# Altium schematic symbol library Custom_schematic.SchLib: 7 symbols
Pins are listed as number, name and electrical type; pins without a type are passive.

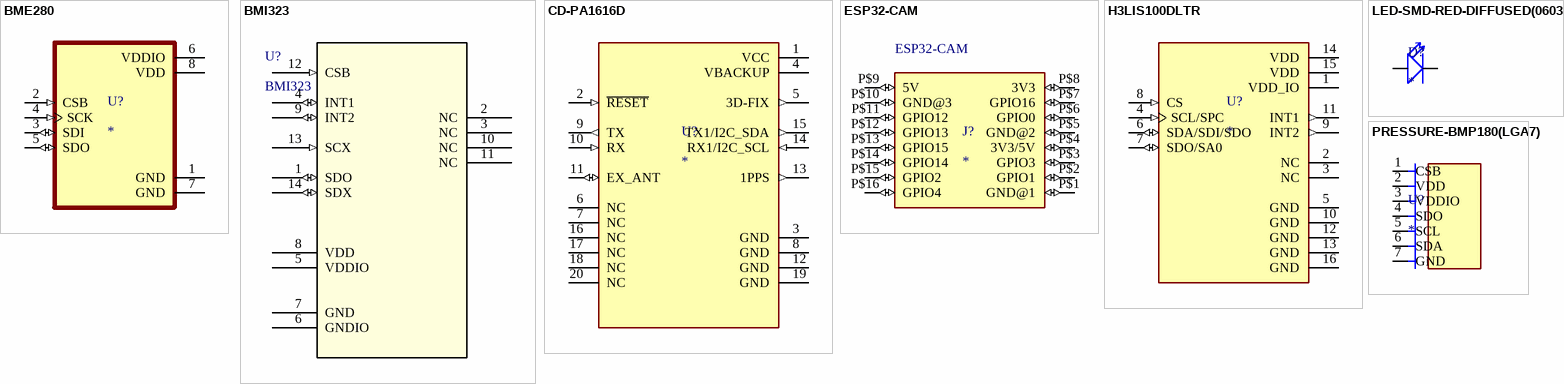
[diagram p0: symbols BME280 to PRESSURE-BMP180(LGA7)]

## BME280
designator U?
Board Mount Humidity Sensors MEMS humidity, pressure and temperature sensor; MF: Bosch; MP: BME280; SnapEDA_Link: https://www.snapeda.com/parts/BME280/Bosch/view-part/?ref=snap; Package: LGA-8 Bosch; Value: *; Check_prices: https://www.snapeda.com/parts/BME280/Bosch/view-part/?ref=eda
footprint PSON65P250X250X100-8N
pins: 1 GND (power), 2 CSB (in), 3 SDI (io), 4 SCK (in), 5 SDO (io), 6 VDDIO (power), 7 GND (power), 8 VDD (power)

## BMI323
designator U?
Description; Manufacturer_Name: Bosch Sensortec; Copyright: Copyright (C) 2026 Ultra Librarian. All rights reserved.; Manufacturer_Part_Number: BMI323; RefDes: RefDes; Type: Type
footprint BMI323_BOS
pins: 1 SDO (io), 2 NC, 3 NC, 4 INT1 (io), 5 VDDIO (power), 6 GNDIO (power), 7 GND (power), 8 VDD (power), 9 INT2 (io), 10 NC, 11 NC, 12 CSB (in), 13 SCX (in), 14 SDX (io)

## CD-PA1616D
designator U?
CD-PA1616DGNSS patch antenna module; MF: CD Top; SnapEDA_Link: https://www.snapeda.com/parts/CD-PA1616D/CD+technology/view-part/?ref=snap; Package: Package; Value: *; MP: CD-PA1616D; Check_prices: https://www.snapeda.com/parts/CD-PA1616D/CD+technology/view-part/?ref=eda
footprint XCVR_CD-PA1616D
pins: 1 VCC (power), 2 ~{RESET} (in), 3 GND (power), 4 VBACKUP (power), 5 3D-FIX (out), 6 NC, 7 NC, 8 GND (power), 9 TX (out), 10 RX (in), 11 EX_ANT (io), 12 GND (power), 13 1PPS (out), 14 RX1/I2C_SCL (in), 15 TX1/I2C_SDA (out), 16 NC, 17 NC, 18 NC, 19 GND (power), 20 NC

## ESP32-CAM
designator J?
ESP32 ESP32 Transceiver; 802.11 a/b/g/n (Wi-Fi, WiFi, WLAN), BluetoothÂ® Smart 4.x Low Energy (BLE) Evaluation Board; MF: AI-Thinker; MP: ESP32-CAM; SnapEDA_Link: https://www.snapeda.com/parts/ESP32-CAM/AI-Thinker/view-part/?ref=snap; Package: None; Value: *; Check_prices: https://www.snapeda.com/parts/ESP32-CAM/AI-Thinker/view-part/?ref=eda
footprint ESP32-CAM
pins: P$1 GND@1 (io), P$2 GPIO1 (io), P$3 GPIO3 (io), P$4 3V3/5V (io), P$5 GND@2 (io), P$6 GPIO0 (io), P$7 GPIO16 (io), P$8 3V3 (io), P$9 5V (io), P$10 GND@3 (io), P$11 GPIO12 (io), P$12 GPIO13 (io), P$13 GPIO15 (io), P$14 GPIO14 (io), P$15 GPIO2 (io), P$16 GPIO4 (io)

## H3LIS100DLTR
designator U?
Accelerometer X, Y, Z Axis Â±100g 25Hz ~ 200Hz 16-TFLGA (3x3); MF: STMicroelectronics; MP: H3LIS100DLTR; SnapEDA_Link: https://www.snapeda.com/parts/H3LIS100DLTR/STMicroelectronics/view-part/?ref=snap; Package: TFLGA-16 STMicroelectronics; Value: *; Check_prices: https://www.snapeda.com/parts/H3LIS100DLTR/STMicroelectronics/view-part/?ref=eda
footprint PQFN50P300X300X100-16N
pins: 1 VDD_IO (power), 2 NC, 3 NC, 4 SCL/SPC (in), 5 GND (power), 6 SDA/SDI/SDO (io), 7 SDO/SA0 (io), 8 CS (in), 9 INT2 (out), 10 GND (power), 11 INT1 (out), 12 GND (power), 13 GND (power), 14 VDD (power), 15 VDD (power), 16 GND (power)

## LED-SMD-RED-DIFFUSED(0603)
designator D?
Red - LED Indication - Discrete 1.95V 0603 (1608 Metric); MF: Everlight Electronics; MP: 19-217/R6C-AL1M2VY/3T; SnapEDA_Link: https://www.snapeda.com/parts/19-217/R6C-AL1M2VY/3T/Everlight/view-part/?ref=snap; Package: 0603 Everlight Electronics; Value: *; Check_prices: https://www.snapeda.com/parts/19-217/R6C-AL1M2VY/3T/Everlight/view-part/?ref=eda
footprint LED-0603
pins: NEG, POS

## PRESSURE-BMP180(LGA7)
designator U?
Pressure Sensor 4.35PSI ~ 15.95PSI (30kPa ~ 110kPa) Absolute - 16 ~ 19 b 7-VLGA; MF: Bosch; MP: BMP180; SnapEDA_Link: https://www.snapeda.com/parts/BMP180/Bosch/view-part/?ref=snap; Package: LGA-7 Bosch; Value: *; Check_prices: https://www.snapeda.com/parts/BMP180/Bosch/view-part/?ref=eda
footprint LGA7-1.5-3.8X3.6MM
pins: 1 CSB (io), 2 VDD (io), 3 VDDIO (io), 4 SDO (io), 5 SCL (io), 6 SDA (io), 7 GND (io)